# EAGLE library part ACPL-247 (library opto_STE)
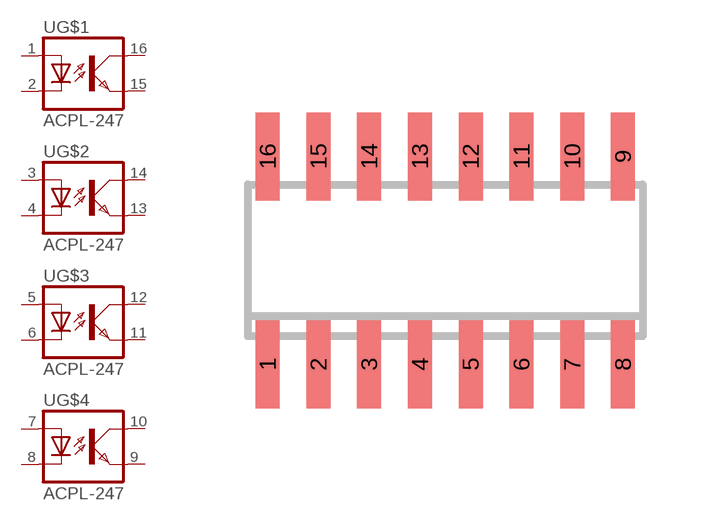
[diagram p0: symbol with the pads of SO16; footprint SO16]

Designator prefix -; gates G$1=OK G$2=OK G$3=OK G$4=OK

## ACPL-247  [SO16]
1  G$1:A  pas
2  G$1:C  pas
3  G$2:A  pas
4  G$2:C  pas
5  G$3:A  pas
6  G$3:C  pas
7  G$4:A  pas
8  G$4:C  pas
9  G$4:EMIT  pas
10  G$4:COL  pas
11  G$3:EMIT  pas
12  G$3:COL  pas
13  G$2:EMIT  pas
14  G$2:COL  pas
15  G$1:EMIT  pas
16  G$1:COL  pas

## Footprint SO16 (pad centres in mm)
SMALL OUTLINE INTEGRATED CIRCUIT body 3.9 mm/JEDEC MS-012AC
smd 0.6 x 2.2: 1 -4.445,-2.6; 2 -3.175,-2.6; 3 -1.905,-2.6; 4 -0.635,-2.6; 5 0.635,-2.6; 6 1.905,-2.6; 7 3.175,-2.6; 8 4.445,-2.6; 9 4.445,2.6; 10 3.175,2.6; 11 1.905,2.6; 12 0.635,2.6; 13 -0.635,2.6; 14 -1.905,2.6; 15 -3.175,2.6; 16 -4.445,2.6